# Altium footprint library PcbLib1_2019.2.10.PcbLib: 87 footprints (part 5 of 6)
Each footprint in its own frame and in the unit in brackets; x right, y up, seen from the top. Pads: shape width x height; smd on the part's side, far side on the other; paste and mask are expansions set on the pad; w line width, h text height; cw(c..) or ccw(c..) is an arc to the next point about the centre after c.
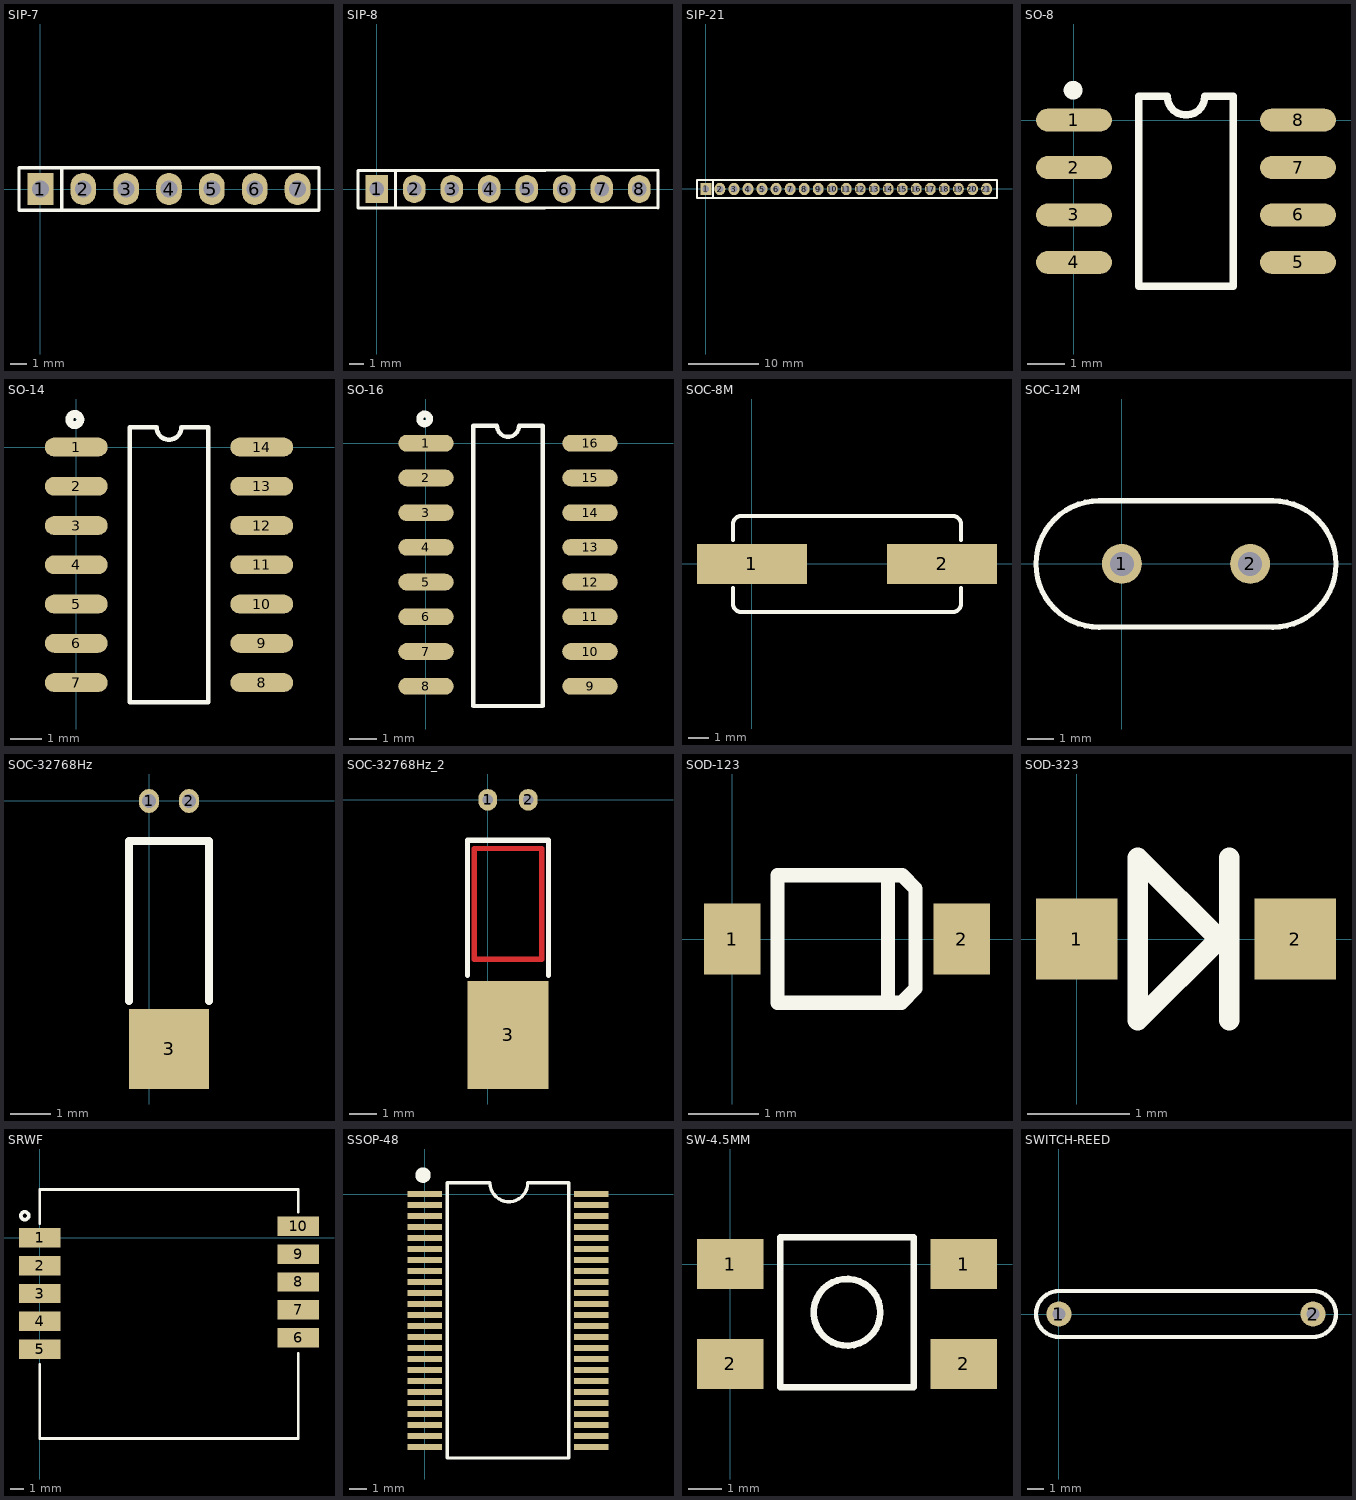
[diagram p4: the footprints below, top view; thin cyan lines are the x and y axes]

## SIP-7 [mm]
pads (7):
  rect 1.524x1.905 hole 1: 1(0,0)
  oval 1.524x1.905 hole 1: 2(2.54,0) 3(5.08,0) 4(7.62,0) 5(10.16,0) 6(12.7,0) 7(15.24,0)
Top Overlay:
  lines w0.2: 11.4,-1.27 16.51,-1.27 ; 11.43,1.27 16.51,1.27
  lines w0.203: 1.27,-1.27 1.27,1.27 ; 11.4,-1.27 -1.27,-1.27 -1.27,1.27 11.43,1.27 ; 16.51,-1.27 16.51,1.27

## SIP-8 [mm]
pads (8):
  rect 1.524x1.905 hole 1: 1(0,0)
  oval 1.524x1.905 hole 1: 2(2.54,0) 3(5.08,0) 4(7.62,0) 5(10.16,0) 6(12.7,0) 7(15.24,0) 8(17.78,0)
Top Overlay:
  lines w0.2: 11.4,-1.27 19.05,-1.27 ; 11.43,1.27 19.05,1.27
  lines w0.203: 1.27,-1.27 1.27,1.27 ; 11.4,-1.27 -1.27,-1.27 -1.27,1.27 11.43,1.27 ; 19.05,-1.27 19.05,1.27

## SIP-21 [mil]
pads (21):
  rect 60x70 hole 37.4: 1(0,0)
  oval 60x70 hole 37.4: 2(78.74,0) 3(157.48,0) 4(236.22,0) 5(314.96,0) 6(393.7,0) 7(472.44,0) 8(551.18,0) 9(629.92,0) 10(708.66,0) 11(787.4,0) 12(866.14,0) 13(944.88,0) 14(1023.62,0) 15(1102.36,0) 16(1181.1,0) 17(1259.84,0) 18(1338.58,0) 19(1417.32,0) 20(1496.06,0) 21(1574.8,0)
Top Overlay:
  lines w10: 39.37,-50 39.37,48.96 ; 1633.86,48.96 1633.86,-50 -50,-50 -50,50 1633.86,50

## SO-8 [mil]
pads (8):
  oval 80x24 smd: 1(0,0) 2(0,-50) 3(0,-100) 4(0,-150) 5(236.22,-150) 6(236.22,-100) 7(236.22,-50) 8(236.22,0)
Top Overlay:
  circle w9.84: c-0.98,31.5 r4.92
  lines w7.87: 98.43,25 ccw(c118.11,25) 137.8,25
  lines w8: 98.43,25 68.11,25 68.11,-175 168.11,-175 168.11,25 137.8,25

## SO-14 [mil]
pads (14):
  oval 80x24 smd: 1(0,0) 2(0,-50) 3(0,-100) 4(0,-150) 5(0,-200) 6(0,-250) 7(0,-300) 8(236.22,-300) 9(236.22,-250) 10(236.22,-200) 11(236.22,-150) 12(236.22,-100) 13(236.22,-50) 14(236.22,0)
Top Overlay:
  circle w10: c-1.89,35 r7.07
  lines w5.91: 102.21,25 102.01,25.2 68.11,25.2 68.11,-325 168.11,-325 168.11,25.2 133.7,25.2 ; 102.36,25 ccw(c118.11,25) 133.86,25

## SO-16 [mil]
pads (16):
  oval 80x24 smd: 1(0,0) 2(0,-50) 3(0,-100) 4(0,-150) 5(0,-200) 6(0,-250) 7(0,-300) 8(0,-350) 9(236.22,-350) 10(236.22,-300) 11(236.22,-250) 12(236.22,-200) 13(236.22,-150) 14(236.22,-100) 15(236.22,-50) 16(236.22,0)
Top Overlay:
  circle w10: c-1.89,35 r7.07
  lines w5.91: 102.21,25 102.01,25.2 68.11,25.2 68.11,-378.74 168.11,-378.74 168.11,25.2 133.7,25.2 ; 102.36,25 ccw(c118.11,25) 133.86,25

## SOC-8M [mm]
pads (2):
  rect 5.5x2 smd: 1(0,0) 2(9.5,0)
Top Overlay:
  lines w0.2: -0.95,-1.2 -0.95,-2 ccw(c-0.55,-2) -0.55,-2.4 10.05,-2.4 ccw(c10.05,-2) 10.45,-2 10.45,-1.2 ; -0.95,1.2 -0.95,2 cw(c-0.55,2) -0.55,2.4 10.05,2.4 cw(c10.05,2) 10.45,2 10.45,1.2

## SOC-12M [mil]
pads (2):
  round 60 hole 36.22: 1(0,0) 2(192.13,0)
Top Overlay:
  lines w7.87: -33.86,-94.91 cw(c-33.86,-0.21) -33.86,94.49 225.98,94.49 cw(c225.98,-0.21) 225.98,-94.91 ; -33.86,-94.49 225.98,-94.49

## SOC-32768Hz [mm]
pads (3):
  oval 0.5x0.6 hole 0.35: 1(0,0) 2(1,0)
  rect 2x2 smd: 3(0.5,-6.2)
Top Overlay:
  lines w0.2: -0.5,-5 -0.5,-1 1.5,-1 1.5,-5

## SOC-32768Hz_2 [mm] "3*8(mm)"
pads (3):
  oval 0.7x0.8 hole 0.4: 1(0,0) 2(1.5,0)
  rect 3x4 smd: 3(0.75,-8.7)
Top Layer:
  lines w0.2: -0.5,-5.9 2,-5.9 2,-1.8 -0.5,-1.8 -0.5,-5.9
Top Overlay:
  lines w0.2: -0.75,-6.5 -0.75,-1.5 -0.25,-1.5 1.75,-1.5 2.25,-1.5 2.25,-6.5

## SOD-123 [mm]
pads (2):
  rect 0.8x1 smd: 1(0,0) 2(3.24,0)
Top Overlay:
  lines w0.2: 2.2,-0.9 2.2,0.9 ; 0.64,-0.9 2.39,-0.9 2.59,-0.7 2.59,0.71 2.4,0.9 0.64,0.9 0.64,-0.9

## SOD-323 [mm]
pads (2):
  rect 0.8x0.8 smd: 1(0,0) 2(2.15,0)
Top Overlay:
  lines w0.2: 0.6,-0.7 0.6,-0.8 ; 1.5,-0.8 1.5,0 1.5,0.8 ; 0.6,-0.8 0.6,0 0.6,0.8 1.4,0 0.6,-0.8

## SRWF [mm]
pads (10):
  rect 3x1.4 smd: 1(0,0) 2(0,-2) 3(0,-4) 4(0,-6) 5(0,-8) 6(18.6,-7.17) 7(18.6,-5.17) 8(18.6,-3.17) 9(18.6,-1.17) 10(18.6,0.83)
Top Overlay:
  circle w0.254: c-1.083,1.6 r0.283
  lines w0.2: 0,-14.45 0,-14.05 ; 18.6,-14.45 18.6,-14.05
  lines w0.203: 0,-14.45 18.6,-14.45 ; 0,-14.05 0,-9.123 ; 0,1.052 0,3.5 18.6,3.5 18.6,1.88 ; 18.6,-14.05 18.6,-8.313

## SSOP-48 [mm]
pads (48):
  rect 2x0.35 smd: 1(0,0) 2(0,-0.64) 3(0,-1.28) 4(0,-1.92) 5(0,-2.56) 6(0,-3.2) 7(0,-3.84) 8(0,-4.48) 9(0,-5.12) 10(0,-5.76) 11(0,-6.4) 12(0,-7.04) 13(0,-7.68) 14(0,-8.32) 15(0,-8.96) 16(0,-9.6) 17(0,-10.24) 18(0,-10.88) 19(0,-11.52) 20(0,-12.16) 21(0,-12.8) 22(0,-13.44) 23(0,-14.08) 24(0,-14.72) 25(9.7,-14.72) 26(9.7,-14.08) 27(9.7,-13.44) 28(9.7,-12.8) 29(9.7,-12.16) 30(9.7,-11.52) 31(9.7,-10.88) 32(9.7,-10.24) 33(9.7,-9.6) 34(9.7,-8.96) 35(9.7,-8.32) 36(9.7,-7.68) 37(9.7,-7.04) 38(9.7,-6.4) 39(9.7,-5.76) 40(9.7,-5.12) 41(9.7,-4.48) 42(9.7,-3.84) 43(9.7,-3.2) 44(9.7,-2.56) 45(9.7,-1.92) 46(9.7,-1.28) 47(9.7,-0.64) 48(9.7,0)
Top Overlay:
  circle w0.5: c-0.1,1.1 r0.2
  lines w0.2: 1.3,-15.37 1.3,0.65 3.8,0.65 ccw(c4.9,0.65) 6,0.65 8.4,0.65 8.4,-15.37 1.3,-15.37

## SW-4.5MM [mm]
pads (4):
  rect 2x1.5 smd: 1(0,0) 1(7,0) 2(0,-3) 2(7,-3)
Top Overlay:
  circle w0.2: c3.5,-1.45 r1
  lines w0.2: 1.5,-3.7 1.5,0.8 5.5,0.8 5.5,-3.7 1.5,-3.7

## SWITCH-REED [mil]
pads (2):
  round 60 hole 31.5: 1(0,0) 2(610.24,0)
Top Overlay:
  lines w10: 0,-55.12 cw(c0,0) 0,55.12 610.24,55.12 cw(c610.24,0) 610.24,-55.12 0,-55.12